# Altium footprint library Lib Pcb.PcbLib: 84 footprints (part 4 of 6)
Each footprint in its own frame and in the unit in brackets; x right, y up, seen from the top. Pads: shape width x height; smd on the part's side, far side on the other; paste and mask are expansions set on the pad; w line width, h text height; cw(c..) or ccw(c..) is an arc to the next point about the centre after c.
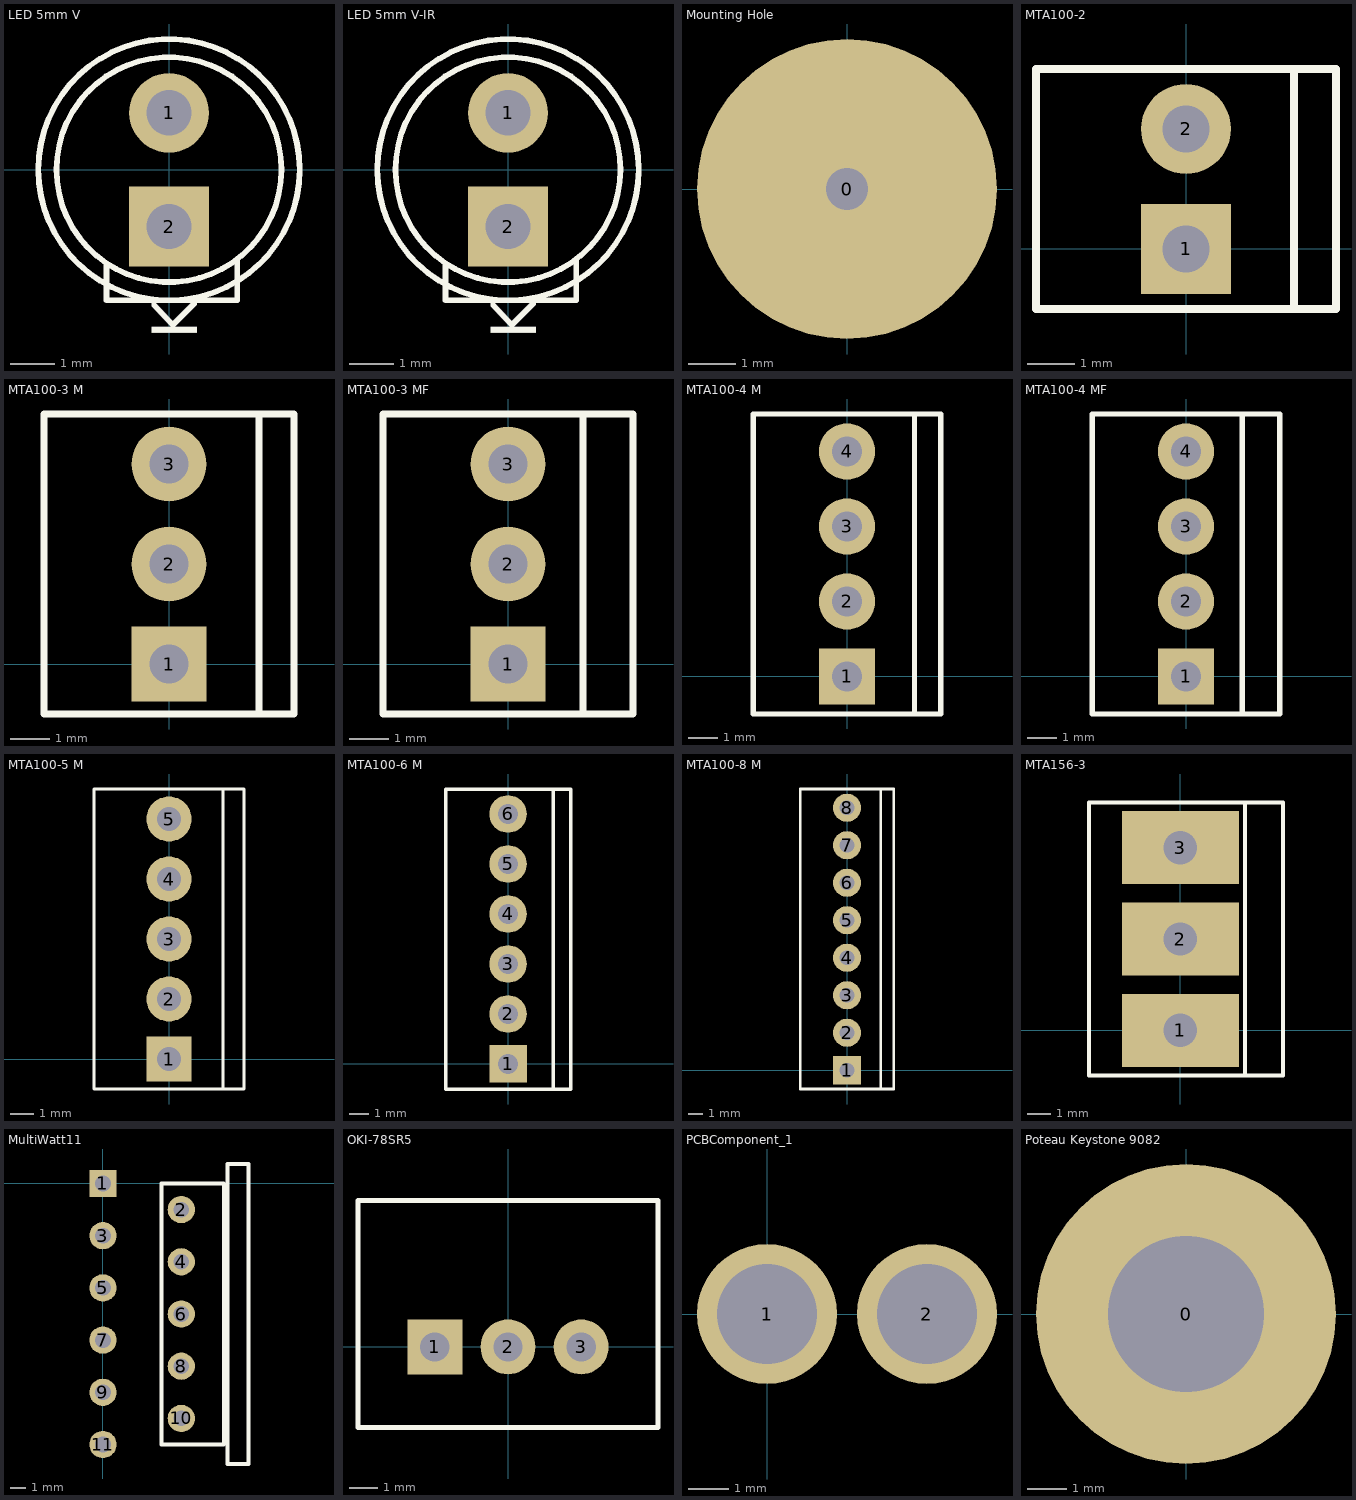
[diagram p3: the footprints below, top view; thin cyan lines are the x and y axes]

## LED 5mm V [mil] "LED 5mm V"
height 350
pads (2):
  round 70 hole 40: 1(0,50)
  rect 70x70 hole 40: 2(0,-50)
Top Overlay:
  circle w5: c0,0 r115
  circle w5: c0,0 r99
  lines w5: -55,-83 -55,-115 60,-115 60,-79
  text "K" at 25,-149 h40
3D body: height 285, standoff 75, extent -103.98,-104.54 105,104.56
3D body: height 10, standoff -30, extent -14.88,-64.96 15,-35.02
3D body: height 185, standoff 10, extent -104.17,-104.78 105,104.8
3D body: height 20, standoff 10, extent -55,-115 60,-80
3D body: height 20, standoff 10, extent -114.08,-114.76 115.01,114.78
3D body: height 10, standoff -30, extent -14.88,35.04 15,64.98

## LED 5mm V-IR [mil] "LED 5mm V-IR"
height 350
pads (2):
  round 70 hole 40: 1(0,50)
  rect 70x70 hole 40: 2(0,-50)
Top Overlay:
  circle w5: c0,0 r115
  circle w5: c0,0 r99
  lines w5: -55,-84 -55,-115 60,-115 60,-79
  text "K" at 25,-149 h40
3D body: height 285, standoff 75, extent -103.9,-104.54 105,104.56
3D body: height 10, standoff -30, extent -14.88,-64.96 15,-35.02
3D body: height 10, standoff -30, extent -14.88,35.04 15,64.98
3D body: height 185, standoff 10, extent -104.17,-104.78 105,104.8
3D body: height 20, standoff 10, extent -55,-115 60,-80
3D body: height 20, standoff 10, extent -114.08,-114.76 115.01,114.78

## Mounting Hole [mil] "Mounting Hole"
pads (1):
  round 250 hole 35.4: 0(0,0)

## MTA100-2 [mil] "MTA100-2 M"
height 400
pads (2):
  rect 75x75 hole 39.4: 1(0,0)
  round 75 hole 39.4: 2(0,100)
Top Overlay:
  lines w7: 90,-50 90,150 ; -125,-50 -125,150 125,150 125,-50 -125,-50
3D body: height 32, standoff -400, extent -20,-20 20,20
3D body: height 32, standoff -400, extent -20,80 20,120
3D body: height -100, standoff -300, extent 90,0 125,100
3D body: height 100, standoff 5, extent -125,-50 125,150

## MTA100-3 M [mil] "MTA100-3 M"
height 400
pads (3):
  rect 75x75 hole 39.4: 1(0,0)
  round 75 hole 39.4: 2(0,100) 3(0,200)
Top Overlay:
  lines w7: 90,-50 90,250 ; -125,-50 -125,250 125,250 125,-50 -125,-50
3D body: height 32, standoff -400, extent -20,-20 20,20
3D body: height 32, standoff -400, extent -20,180 20,220
3D body: height 32, standoff -400, extent -20,80 20,120
3D body: height -100, standoff -300, extent 90,0 125,200
3D body: height 100, standoff 5, extent -125,-50 125,250

## MTA100-3 MF [mil] "MTA100-3 MF"
height 625
pads (3):
  rect 75x75 hole 39.4: 1(0,0)
  round 75 hole 39.4: 2(0,100) 3(0,200)
Top Overlay:
  lines w7: 75,-50 75,250 ; -125,-50 125,-50 125,250 -125,250 -125,-50
3D body: height 627, standoff 625, extent -25,187.5 25,212.5
3D body: height 627, standoff 625, extent -25,87.5 25,112.5
3D body: height 627, standoff 625, extent -25,-12.5 25,12.5
3D body: height 132, standoff -400, extent -20,-20 20,20
3D body: height 625, standoff 400, extent 85,-50 125,245
3D body: height 625, standoff 105, extent -125,-50 85,245
3D body: height 132, standoff -400, extent -20,180 20,220
3D body: height 132, standoff -400, extent -20,80 20,120
3D body: height -100, standoff -300, extent 90,0 125,200
3D body: height 100, standoff 5, extent -125,-50 125,245

## MTA100-4 M [mil] "MTA100-4 M"
height 400
pads (4):
  rect 75x75 hole 39.4: 1(0,0)
  round 75 hole 39.4: 2(0,100) 3(0,200) 4(0,300)
Top Overlay:
  lines w7: 90,-50 90,350 ; -125,-50 -125,350 125,350 125,-50 -125,-50
3D body: height 32, standoff -400, extent -20,-20 20,20
3D body: height 32, standoff -400, extent -20,280 20,320
3D body: height 32, standoff -400, extent -20,80 20,120
3D body: height -100, standoff -300, extent 90,0 125,300
3D body: height 100, standoff 5, extent -125,-50 125,350
3D body: height 32, standoff -400, extent -20,180 20,220

## MTA100-4 MF [mil] "MTA100-4 MF"
height 625
pads (4):
  rect 75x75 hole 39.4: 1(0,0)
  round 75 hole 39.4: 2(0,100) 3(0,200) 4(0,300)
Top Overlay:
  lines w7: 75,-50 75,350 ; -125,-50 -125,350 125,350 125,-50 -125,-50
3D body: height 627, standoff 625, extent -25,287.5 25,312.5
3D body: height 132, standoff -400, extent -20,280 20,320
3D body: height 100, standoff 5, extent -125,-50 125,350
3D body: height -100, standoff -300, extent 90,0 125,300
3D body: height 132, standoff -400, extent -20,80 20,120
3D body: height 132, standoff -400, extent -20,180 20,220
3D body: height 625, standoff 105, extent -125,-50 85,350
3D body: height 625, standoff 400, extent 85,-50 125,350
3D body: height 132, standoff -400, extent -20,-20 20,20
3D body: height 627, standoff 625, extent -25,-12.5 25,12.5
3D body: height 627, standoff 625, extent -25,87.5 25,112.5
3D body: height 627, standoff 625, extent -25,187.5 25,212.5

## MTA100-5 M [mil] "MTA100-5 M"
height 400
pads (5):
  rect 75x75 hole 39.4: 1(0,0)
  round 75 hole 39.4: 2(0,100) 3(0,200) 4(0,300) 5(0,400)
Top Overlay:
  lines w5: 90,-50 90,450 ; -125,-50 -125,450 125,450 125,-50 -125,-50
3D body: height 32, standoff -400, extent -20,-20 20,20
3D body: height 32, standoff -400, extent -20,280 20,320
3D body: height 32, standoff -400, extent -20,80 20,120
3D body: height -100, standoff -300, extent 90,0 125,400
3D body: height 100, standoff 5, extent -125,-50 125,450
3D body: height 32, standoff -400, extent -20,180 20,220
3D body: height 32, standoff -400, extent -20,380 20,420

## MTA100-6 M [mil] "MTA100-6 M"
height 400
pads (6):
  rect 75x75 hole 39.4: 1(0,0)
  round 75 hole 39.4: 2(0,100) 3(0,200) 4(0,300) 5(0,400) 6(0,500)
Top Overlay:
  lines w7: -125,350 -125,550 ; 90,-50 90,550 ; 125,350 125,550 ; -125,550 -125,-50 125,-50 125,550 ; -125,550 125,550
3D body: height 32, standoff -400, extent -20,-20 20,20
3D body: height 32, standoff -400, extent -20,280 20,320
3D body: height 32, standoff -400, extent -20,80 20,120
3D body: height -100, standoff -300, extent 90,0 125,500
3D body: height 100, standoff 5, extent -125,-50 125,550
3D body: height 32, standoff -400, extent -20,180 20,220
3D body: height 32, standoff -400, extent -20,380 20,420
3D body: height 32, standoff -400, extent -20,480 20,520

## MTA100-8 M [mil] "MTA100-6 M"
height 400
pads (8):
  rect 75x75 hole 39.4: 1(0,0)
  round 75 hole 39.4: 2(0,100) 3(0,200) 4(0,300) 5(0,400) 6(0,500) 7(0,600) 8(0,700)
Top Overlay:
  lines w7: -125,350 -125,750 125,750 125,350 ; -125,550 -125,-50 125,-50 125,550 ; 90,-50 90,750
3D body: height 32, standoff -400, extent -20,-20 20,20
3D body: height 32, standoff -400, extent -20,280 20,320
3D body: height 32, standoff -400, extent -20,80 20,120
3D body: height -100, standoff -300, extent 90,0 125,700
3D body: height 100, standoff 5, extent -125,-50 125,750
3D body: height 32, standoff -400, extent -20,180 20,220
3D body: height 32, standoff -400, extent -20,380 20,420
3D body: height 32, standoff -400, extent -20,480 20,520
3D body: height 32, standoff -400, extent -20,680 20,720
3D body: height 32, standoff -400, extent -20,580 20,620

## MTA156-3 [mil] "MTA156-3"
height 850
pads (3):
  rect 200x125 hole 57: 1(0,0) 2(0,156) 3(0,312)
Top Overlay:
  lines w7: 110,-77 110,389 ; -156,-77 175,-77 175,389 -156,389 -156,-77
3D body: height 525, standoff -125, extent -119.49,-78.01 180.51,389.99

## MultiWatt11 [mil]
pads (11):
  rect 70x70 hole 40: 1(0,0)
  round 70 hole 40: 2(201,-67) 3(0,-134) 4(201,-201) 5(0,-268) 6(201,-335) 7(0,-402) 8(201,-469) 9(0,-536) 10(201,-603) 11(0,-670)
Top Overlay:
  lines w10: 150,-670 150,0 310,0 310,-670 150,-670 ; 320,-720 374,-720 374,50 320,50 320,-720

## OKI-78SR5 [mil]
height 650
pads (3):
  rect 75x75 hole 40: 1(-100,0)
  round 75 hole 40: 2(0,0) 3(100,0)
Top Overlay:
  lines w7: -205,-110 205,-110 ; -205,-110 -205,200 205,200 205,-110 ; -205,-110 205,-110
3D body: height 650, standoff 0, extent -205,40 205,100
3D body: height 500, standoff 200, extent -175,-110 175,40
3D body: height 400, standoff 200, extent -185,100 -110,200
3D body: height 550, standoff 300, extent -103.75,100 186.25,160
3D body: height 250, standoff 100, extent -77.5,100 0,165
3D body: height 225, standoff 175, extent 40,100 137.5,150
3D body: height 150, standoff 100, extent 41.25,100 138.76,150

## PCBComponent_1 [mm]
pads (2):
  round 3.5 hole 2.5: 1(0,0) 2(4,0)

## Poteau Keystone 9082 [mil] "Poteau Keystone 9082"
height 400
pads (1):
  round 300 hole 156: 0(0,0)
3D body: height 100, standoff 0, extent -138.89,-139.72 140,139.73
3D body: height 375, standoff 350, extent -350,-350 350,350
3D body: height 266, standoff 100, extent -137.5,-37.5 137.5,37.5
3D body: height 266, standoff 100, extent -37.5,-137.5 37.5,137.5
3D body: height 350, standoff 266, extent -350,-350 350,350
3D body: height 400, standoff 244, extent -77.18,-77.66 78,77.68
3D body: height 322, standoff 0, extent -77.38,-77.84 78.01,77.85
3D body: height 306.17, standoff -0.69, extent 10.67,-32.93 127.5,32.94